# Altium schematic symbol library LWY1SG.SchLib: 1 symbol
Pins are listed as number, name and electrical type; pins without a type are passive.

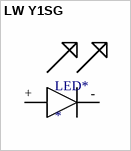
[diagram p0: symbol LW Y1SG]

## LW Y1SG
designator LED*
Perpendicular LED
footprint LW Y1SG (LED perpendicular mount)
pins: +, -